# Altium schematic symbol library Header-40.Schlib: 1 symbol
Pins are listed as number, name and electrical type; pins without a type are passive.

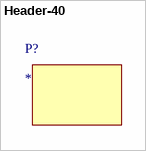
[diagram p0: symbol Header-40]

## Header-40
designator P?